# Altium schematic symbol library ESP8266.SchLib: 1 symbol
Pins are listed as number, name and electrical type; pins without a type are passive.

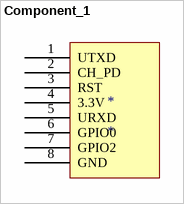
[diagram p0: symbol Component_1]

## Component_1
designator *
footprint DIP8 - duplicate
pins: 1 UTXD, 2 CH_PD, 3 RST, 4 3.3V, 5 URXD, 6 GPIO0, 7 GPIO2, 8 GND